# Altium integrated library Diodes - TVS.IntLib: 5379 symbols (part 92 of 122)
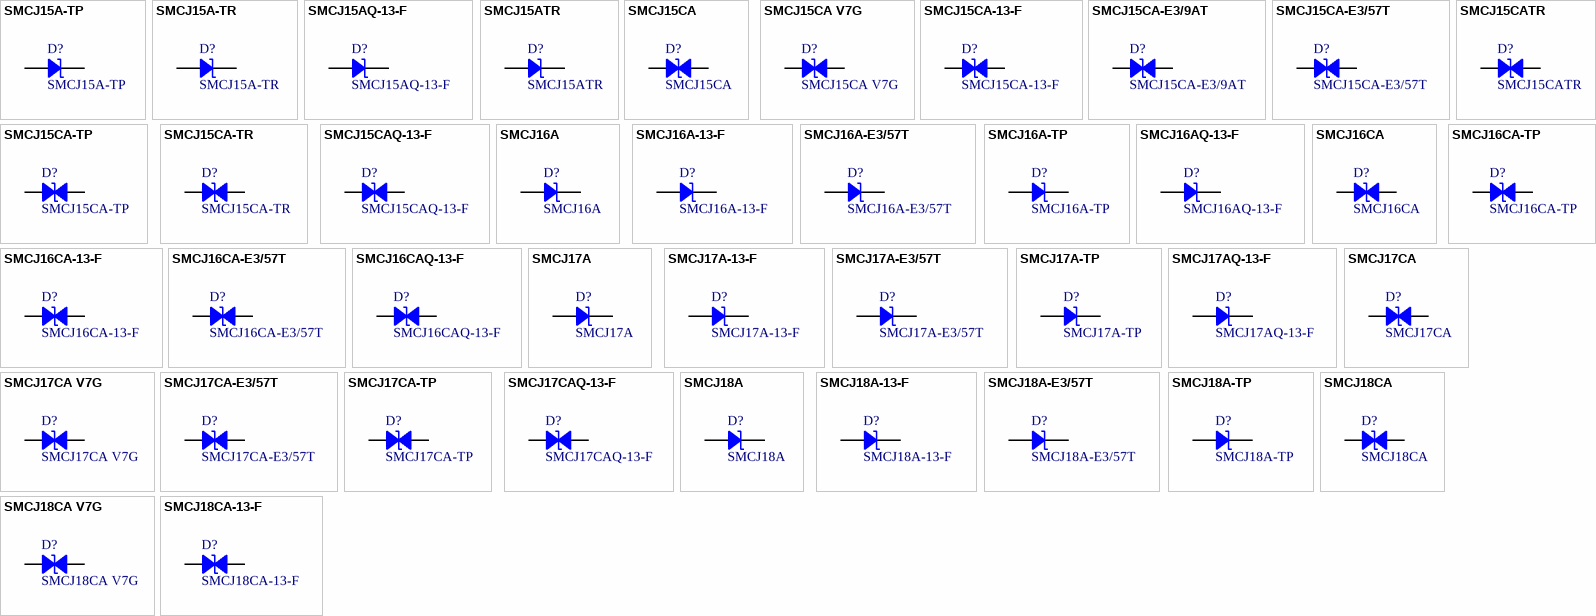
[diagram p225: symbols SMCJ15A-TP to SMCJ18CA-13-F]

## SMCJ17CAQ-13-F
designator D?
TRANSIENT VOLTAGE SUPPRESSOR,SMC; Manufacturer: Diodes Incorporated; Bidirectional Channels: 1; Current - Peak Pulse (10/1000µs): 53.3A; Power Line Protection: No; Power - Peak Pulse: 1500W (1.5kW); Type: Zener; Voltage - Breakdown (Min): 18.9V; Voltage - Clamping (Max) @ Ipp: 27.6V; Voltage - Reverse Standoff (Typ): 17V; Part Number: SMCJ17CAQ-13-F; Applications: Automotive; ComponentLink1Description: Datasheet; ComponentLink1URL: https://www.diodes.com/assets/Datasheets/ds40741.pdf; ComponentLink2Description: DigiKey Link; ComponentLink2URL: http://digikey.com/product-detail/en/diodes-incorporated/SMCJ17CAQ-13-F/SMCJ17CAQ-13-FDICT-ND/9738946; LastUpdated: 9/2/2020 1:28:09 AM; Lifecycle Status: Active; Minimum Order: 1; Mounting Type: Surface Mount; Operating Temperature: -55°C ~ 150°C (TJ); Package / Case: DO-214AB, SMC; Packaging: TapeAndReel; PartId: 8731; Part Status: Active; Price: 0.28; Series: Automotive, AEC-Q101; Supplier 1: DigiKey; Supplier Part Number 1: SMCJ17CAQ-13-FDICT-ND; Supplier Device Package: SMC
footprint DO214AB SMC
pins: 1, 2

## SMCJ18A
designator D?
TVS DIODE 18V 29.2V SMC; Manufacturer: Bourns Inc.; Current - Peak Pulse (10/1000µs): 51.4A; Power Line Protection: No; Power - Peak Pulse: 1500W (1.5kW); Type: Zener; Unidirectional Channels: 1; Voltage - Breakdown (Min): 20V; Part Number: SMCJ18A; Applications: General Purpose; ComponentLink1Description: Datasheet; ComponentLink1URL: https://www.bourns.com/docs/Product-Datasheets/SMCJ.pdf; ComponentLink2Description: DigiKey Link; ComponentLink2URL: http://digikey.com/product-detail/en/bourns-inc/SMCJ18A/SMCJ18ABCT-ND/2254276; LastUpdated: 9/2/2020 1:20:03 AM; Lifecycle Status: Active; Minimum Order: 1; Mounting Type: Surface Mount; Operating Temperature: -55°C ~ 150°C (TJ); Package / Case: DO-214AB, SMC; Packaging: TapeAndReel; PartId: 6693; Part Status: Active; Price: 0.20; Series: SMCJ; Supplier 1: DigiKey; Supplier Part Number 1: SMCJ18ABCT-ND; Supplier Device Package: SMC (DO-214AB); Voltage - Clamping (Max) @ Ipp: 29.2V; Voltage - Reverse Standoff (Typ): 18V
footprint DO214AB SMC
pins: 1, 2

## SMCJ18A-13-F
designator D?
TVS DIODE 18V 29.2V SMC; Manufacturer: Diodes Incorporated; Current - Peak Pulse (10/1000µs): 51.4A; Power Line Protection: No; Power - Peak Pulse: 1500W (1.5kW); Type: Zener; Unidirectional Channels: 1; Voltage - Breakdown (Min): 20V; Part Number: SMCJ18A-13-F; Applications: General Purpose; ComponentLink1Description: Datasheet; ComponentLink1URL: https://www.diodes.com/assets/Datasheets/ds19003.pdf; ComponentLink2Description: DigiKey Link; ComponentLink2URL: http://digikey.com/product-detail/en/diodes-incorporated/SMCJ18A-13-F/SMCJ18A-FDICT-ND/765475; LastUpdated: 9/2/2020 1:20:00 AM; Lifecycle Status: Active; Minimum Order: 1; Mounting Type: Surface Mount; Operating Temperature: -55°C ~ 150°C (TJ); Package / Case: DO-214AB, SMC; Packaging: TapeAndReel; PartId: 6366; Part Status: Active; Price: 0.27; Series: -; Supplier 1: DigiKey; Supplier Part Number 1: SMCJ18A-FDICT-ND; Supplier Device Package: SMC; Voltage - Clamping (Max) @ Ipp: 29.2V; Voltage - Reverse Standoff (Typ): 18V
footprint DO214AB SMC
pins: 1, 2

## SMCJ18A-E3/57T
designator D?
TVS DIODE 18V 29.2V DO214AB; Manufacturer: Vishay Semiconductor Diodes Division; Current - Peak Pulse (10/1000µs): 51.4A; Power Line Protection: No; Power - Peak Pulse: 1500W (1.5kW); Type: Zener; Unidirectional Channels: 1; Voltage - Breakdown (Min): 20V; Part Number: SMCJ18A-E3/57T; Applications: General Purpose; ComponentLink1Description: Datasheet; ComponentLink1URL: http://www.vishay.com/docs/88394/smcj.pdf; ComponentLink2Description: DigiKey Link; ComponentLink2URL: http://digikey.com/product-detail/en/vishay-semiconductor-diodes-division/SMCJ18A-E3-57T/SMCJ18A-E3-57TGICT-ND/2413462; LastUpdated: 9/2/2020 1:20:01 AM; Lifecycle Status: Active; Minimum Order: 1; Mounting Type: Surface Mount; Operating Temperature: -55°C ~ 150°C (TJ); Package / Case: DO-214AB, SMC; Packaging: TapeAndReel; PartId: 6490; Part Status: Active; Price: 0.25; Series: TransZorb®; Supplier 1: DigiKey; Supplier Part Number 1: SMCJ18A-E3/57TGICT-ND; Supplier Device Package: DO-214AB (SMCJ); Voltage - Clamping (Max) @ Ipp: 29.2V; Voltage - Reverse Standoff (Typ): 18V
footprint DO214AB SMC
pins: 1, 2

## SMCJ18A-TP
designator D?
TVS DIODE 18V 29.2V DO214AB; Manufacturer: Micro Commercial Co; Current - Peak Pulse (10/1000µs): 51.4A; Power Line Protection: No; Power - Peak Pulse: 1500W (1.5kW); Type: Zener; Unidirectional Channels: 1; Voltage - Breakdown (Min): 20V; Part Number: SMCJ18A-TP; Applications: General Purpose; ComponentLink1Description: Datasheet; ComponentLink1URL: https://www.mccsemi.com/pdf/Products/SMCJ5.0~SMCJ440CA(DO-214AB).pdf; ComponentLink2Description: DigiKey Link; ComponentLink2URL: http://digikey.com/product-detail/en/micro-commercial-co/SMCJ18A-TP/SMCJ18A-TPMSCT-ND/1200753; LastUpdated: 9/2/2020 1:20:07 AM; Lifecycle Status: Active; Minimum Order: 1; Mounting Type: Surface Mount; Operating Temperature: -55°C ~ 175°C (TJ); Package / Case: DO-214AB, SMC; Packaging: TapeAndReel; PartId: 7166; Part Status: Active; Price: 0.20; Series: -; Supplier 1: DigiKey; Supplier Part Number 1: SMCJ18A-TPMSCT-ND; Supplier Device Package: DO-214AB (SMC); Voltage - Clamping (Max) @ Ipp: 29.2V; Voltage - Reverse Standoff (Typ): 18V
footprint DO214AB SMC
pins: 1, 2

## SMCJ18CA
designator D?
TVS DIODE 18V 29.2V SMC; Manufacturer: Taiwan Semiconductor Corporation; Bidirectional Channels: 1; Current - Peak Pulse (10/1000µs): 51.4A; Power Line Protection: No; Power - Peak Pulse: 1500W (1.5kW); Type: Zener; Voltage - Breakdown (Min): 20V; Part Number: SMCJ18CA; Applications: General Purpose; ComponentLink1Description: Datasheet; ComponentLink1URL: https://www.taiwansemi.com/products/datasheet/SMCJ5V0CA_F%20SERIES_A1806.pdf; ComponentLink2Description: DigiKey Link; ComponentLink2URL: http://digikey.com/product-detail/en/taiwan-semiconductor-corporation/SMCJ18CA/SMCJ18CAFSCT-ND/2053169; LastUpdated: 9/2/2020 1:28:03 AM; Lifecycle Status: Active; Minimum Order: 1; Mounting Type: Surface Mount; Package / Case: DO-214AB, SMC; Packaging: TapeAndReel; PartId: 8116; Part Status: Active; Price: 0.30; Series: -; Supplier 1: DigiKey; Supplier Part Number 1: SMCJ18CAFSCT-ND; Supplier Device Package: SMC (DO-214AB); Voltage - Clamping (Max) @ Ipp: 29.2V; Voltage - Reverse Standoff (Typ): 18V
footprint DO214AB SMC
pins: 1, 2

## SMCJ18CA V7G
designator D?
TVS DIODE 18V 29.2V DO214AB; Manufacturer: Taiwan Semiconductor Corporation; Bidirectional Channels: 1; Current - Peak Pulse (10/1000µs): 53A; Power Line Protection: No; Power - Peak Pulse: 1500W (1.5kW); Type: Zener; Voltage - Breakdown (Min): 20V; Part Number: SMCJ18CA V7G; Applications: Telecom; ComponentLink1Description: Datasheet; ComponentLink1URL: https://www.taiwansemi.com/products/datasheet/SMCJ5V0CA_F%20SERIES_A1806.pdf; ComponentLink2Description: DigiKey Link; ComponentLink2URL: http://digikey.com/product-detail/en/taiwan-semiconductor-corporation/SMCJ18CA-V7G/SMCJ18CAV7GCT-ND/7944450; LastUpdated: 9/2/2020 1:28:06 AM; Lifecycle Status: Active; Minimum Order: 1; Mounting Type: Surface Mount; Operating Temperature: -55°C ~ 150°C (TJ); Package / Case: DO-214AB, SMC; Packaging: TapeAndReel; PartId: 8448; Part Status: Active; Price: 0.45; Series: SMCJ; Supplier 1: DigiKey; Supplier Part Number 1: SMCJ18CAV7GCT-ND; Supplier Device Package: DO-214AB (SMC); Voltage - Clamping (Max) @ Ipp: 29.2V; Voltage - Reverse Standoff (Typ): 18V
footprint DO214AB SMC
pins: 1, 2

## SMCJ18CA-13-F
designator D?
TVS DIODE 18V 29.2V SMC; Manufacturer: Diodes Incorporated; Bidirectional Channels: 1; Current - Peak Pulse (10/1000µs): 51.4A; Power Line Protection: No; Power - Peak Pulse: 1500W (1.5kW); Type: Zener; Voltage - Breakdown (Min): 20V; Part Number: SMCJ18CA-13-F; Applications: General Purpose; ComponentLink1Description: Datasheet; ComponentLink1URL: https://www.diodes.com/assets/Datasheets/ds19003.pdf; ComponentLink2Description: DigiKey Link; ComponentLink2URL: http://digikey.com/product-detail/en/diodes-incorporated/SMCJ18CA-13-F/SMCJ18CA-FDICT-ND/775797; LastUpdated: 9/2/2020 1:28:02 AM; Lifecycle Status: Active; Minimum Order: 1; Mounting Type: Surface Mount; Operating Temperature: -55°C ~ 150°C (TJ); Package / Case: DO-214AB, SMC; Packaging: TapeAndReel; PartId: 8037; Part Status: Active; Price: 0.27; Series: -; Supplier 1: DigiKey; Supplier Part Number 1: SMCJ18CA-FDICT-ND; Supplier Device Package: SMC; Voltage - Clamping (Max) @ Ipp: 29.2V; Voltage - Reverse Standoff (Typ): 18V
footprint DO214AB SMC
pins: 1, 2

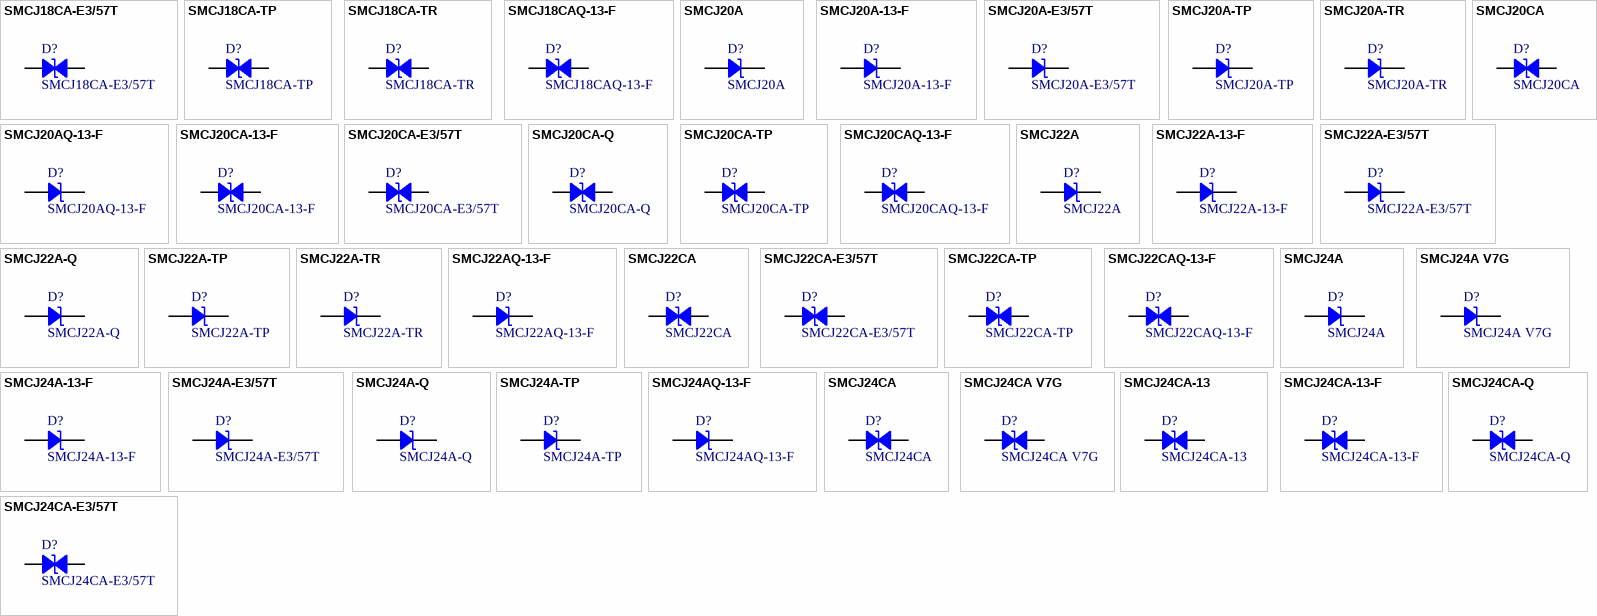
[diagram p101: symbols SMCJ18CA-E3/57T to SMCJ24CA-Q]

## SMCJ18CA-E3/57T
designator D?
TVS DIODE 18V 29.2V DO214AB; Manufacturer: Vishay Semiconductor Diodes Division; Bidirectional Channels: 1; Current - Peak Pulse (10/1000µs): 51.4A; Power Line Protection: No; Power - Peak Pulse: 1500W (1.5kW); Type: Zener; Voltage - Breakdown (Min): 20V; Part Number: SMCJ18CA-E3/57T; Applications: General Purpose; ComponentLink1Description: Datasheet; ComponentLink1URL: http://www.vishay.com/docs/88394/smcj.pdf; ComponentLink2Description: DigiKey Link; ComponentLink2URL: http://digikey.com/product-detail/en/vishay-semiconductor-diodes-division/SMCJ18CA-E3-57T/SMCJ18CA-E3-57TGICT-ND/2413409; LastUpdated: 9/2/2020 1:28:01 AM; Lifecycle Status: Active; Minimum Order: 1; Mounting Type: Surface Mount; Operating Temperature: -55°C ~ 150°C (TJ); Package / Case: DO-214AB, SMC; Packaging: TapeAndReel; PartId: 7921; Part Status: Active; Price: 0.30; Series: TransZorb®; Supplier 1: DigiKey; Supplier Part Number 1: SMCJ18CA-E3/57TGICT-ND; Supplier Device Package: DO-214AB (SMCJ); Voltage - Clamping (Max) @ Ipp: 29.2V; Voltage - Reverse Standoff (Typ): 18V
footprint DO214AB SMC
pins: 1, 2

## SMCJ18CA-TP
designator D?
TVS DIODE 18V 29.2V DO214AB; Manufacturer: Micro Commercial Co; Bidirectional Channels: 1; Current - Peak Pulse (10/1000µs): 51.4A; Power Line Protection: No; Power - Peak Pulse: 1500W (1.5kW); Type: Zener; Voltage - Breakdown (Min): 20V; Part Number: SMCJ18CA-TP; Applications: General Purpose; ComponentLink1Description: Datasheet; ComponentLink1URL: https://www.mccsemi.com/pdf/Products/SMCJ5.0~SMCJ440CA(DO-214AB).pdf; ComponentLink2Description: DigiKey Link; ComponentLink2URL: http://digikey.com/product-detail/en/micro-commercial-co/SMCJ18CA-TP/SMCJ18CA-TPMSCT-ND/1200754; LastUpdated: 9/2/2020 1:28:01 AM; Lifecycle Status: Active; Minimum Order: 1; Mounting Type: Surface Mount; Operating Temperature: -55°C ~ 175°C (TJ); Package / Case: DO-214AB, SMC; Packaging: TapeAndReel; PartId: 7949; Part Status: Active; Price: 0.21; Series: -; Supplier 1: DigiKey; Supplier Part Number 1: SMCJ18CA-TPMSCT-ND; Supplier Device Package: DO-214AB (SMC); Voltage - Clamping (Max) @ Ipp: 29.2V; Voltage - Reverse Standoff (Typ): 18V
footprint DO214AB SMC
pins: 1, 2

## SMCJ18CA-TR
designator D?
TVS DIODE 18V 39.3V SMC; Manufacturer: STMicroelectronics; Bidirectional Channels: 1; Current - Peak Pulse (10/1000µs): 254A (8/20µs); Power Line Protection: No; Power - Peak Pulse: 1500W (1.5kW); Type: Zener; Voltage - Breakdown (Min): 20V; Part Number: SMCJ18CA-TR; Applications: General Purpose; ComponentLink1Description: Datasheet; ComponentLink1URL: http://www.st.com/content/ccc/resource/technical/document/datasheet/ed/51/0b/1f/07/5e/42/1e/CD00001367.pdf/files/CD00001367.pdf/jcr:content/translations/en.CD00001367.pdf; ComponentLink2Description: DigiKey Link; ComponentLink2URL: http://digikey.com/product-detail/en/stmicroelectronics/SMCJ18CA-TR/497-SMCJ18CA-CT-ND/725571; LastUpdated: 9/2/2020 1:28:01 AM; Lifecycle Status: Active; Minimum Order: 1; Mounting Type: Surface Mount; Operating Temperature: -55°C ~ 150°C (TJ); Package / Case: DO-214AB, SMC; Packaging: TapeAndReel; PartId: 7866; Part Status: Active; Price: 0.19; Series: SMCJ, TRANSIL™; Supplier 1: DigiKey; Supplier Part Number 1: 497-SMCJ18CA-CT-ND; Supplier Device Package: SMC; Voltage - Clamping (Max) @ Ipp: 39.3V; Voltage - Reverse Standoff (Typ): 18V
footprint DO214AB SMC
pins: 1, 2

## SMCJ18CAQ-13-F
designator D?
TRANSIENT VOLTAGE SUPPRESSOR,SMC; Manufacturer: Diodes Incorporated; Bidirectional Channels: 1; Current - Peak Pulse (10/1000µs): 51.4A; Power Line Protection: No; Power - Peak Pulse: 1500W (1.5kW); Type: Zener; Voltage - Breakdown (Min): 20V; Voltage - Clamping (Max) @ Ipp: 29.2V; Voltage - Reverse Standoff (Typ): 18V; Part Number: SMCJ18CAQ-13-F; Applications: Automotive; ComponentLink1Description: Datasheet; ComponentLink1URL: https://www.diodes.com/assets/Datasheets/ds40741.pdf; ComponentLink2Description: DigiKey Link; ComponentLink2URL: http://digikey.com/product-detail/en/diodes-incorporated/SMCJ18CAQ-13-F/SMCJ18CAQ-13-FDICT-ND/9738947; LastUpdated: 9/2/2020 1:28:09 AM; Lifecycle Status: Active; Minimum Order: 1; Mounting Type: Surface Mount; Operating Temperature: -55°C ~ 150°C (TJ); Package / Case: DO-214AB, SMC; Packaging: TapeAndReel; PartId: 8732; Part Status: Active; Price: 0.28; Series: Automotive, AEC-Q101; Supplier 1: DigiKey; Supplier Part Number 1: SMCJ18CAQ-13-FDICT-ND; Supplier Device Package: SMC
footprint DO214AB SMC
pins: 1, 2

## SMCJ20A
designator D?
TVS DIODE 20V 32.4V SMC; Manufacturer: Taiwan Semiconductor Corporation; Current - Peak Pulse (10/1000µs): 46.3A; Power Line Protection: No; Power - Peak Pulse: 1500W (1.5kW); Type: Zener; Unidirectional Channels: 1; Voltage - Breakdown (Min): 22.2V; Part Number: SMCJ20A; Applications: General Purpose; ComponentLink1Description: Datasheet; ComponentLink1URL: https://www.taiwansemi.com/products/datasheet/SMCJ%20SERIES_Q1812.pdf; ComponentLink2Description: DigiKey Link; ComponentLink2URL: http://digikey.com/product-detail/en/taiwan-semiconductor-corporation/SMCJ20A/SMCJ20AFSCT-ND/3478372; LastUpdated: 9/2/2020 1:20:02 AM; Lifecycle Status: Active; Minimum Order: 1; Mounting Type: Surface Mount; Package / Case: DO-214AB, SMC; Packaging: TapeAndReel; PartId: 6622; Part Status: Active; Price: 0.26; Series: -; Supplier 1: DigiKey; Supplier Part Number 1: SMCJ20AFSCT-ND; Supplier Device Package: SMC (DO-214AB); Voltage - Clamping (Max) @ Ipp: 32.4V; Voltage - Reverse Standoff (Typ): 20V
footprint DO214AB SMC
pins: 1, 2

## SMCJ20A-13-F
designator D?
TVS DIODE 20V 32.4V SMC; Manufacturer: Diodes Incorporated; Current - Peak Pulse (10/1000µs): 46.3A; Power Line Protection: No; Power - Peak Pulse: 1500W (1.5kW); Type: Zener; Unidirectional Channels: 1; Voltage - Breakdown (Min): 22.2V; Part Number: SMCJ20A-13-F; Applications: General Purpose; ComponentLink1Description: Datasheet; ComponentLink1URL: https://www.diodes.com/assets/Datasheets/ds19003.pdf; ComponentLink2Description: DigiKey Link; ComponentLink2URL: http://digikey.com/product-detail/en/diodes-incorporated/SMCJ20A-13-F/SMCJ20A-FDICT-ND/725081; LastUpdated: 9/2/2020 1:20:03 AM; Lifecycle Status: Active; Minimum Order: 1; Mounting Type: Surface Mount; Operating Temperature: -55°C ~ 150°C (TJ); Package / Case: DO-214AB, SMC; Packaging: TapeAndReel; PartId: 6677; Part Status: Active; Price: 0.26; Series: -; Supplier 1: DigiKey; Supplier Part Number 1: SMCJ20A-FDICT-ND; Supplier Device Package: SMC; Voltage - Clamping (Max) @ Ipp: 32.4V; Voltage - Reverse Standoff (Typ): 20V
footprint DO214AB SMC
pins: 1, 2

## SMCJ20A-E3/57T
designator D?
TVS DIODE 20V 32.4V DO214AB; Manufacturer: Vishay Semiconductor Diodes Division; Current - Peak Pulse (10/1000µs): 46.3A; Power Line Protection: No; Power - Peak Pulse: 1500W (1.5kW); Type: Zener; Unidirectional Channels: 1; Voltage - Breakdown (Min): 22.2V; Part Number: SMCJ20A-E3/57T; Applications: General Purpose; ComponentLink1Description: Datasheet; ComponentLink1URL: http://www.vishay.com/docs/88394/smcj.pdf; ComponentLink2Description: DigiKey Link; ComponentLink2URL: http://digikey.com/product-detail/en/vishay-semiconductor-diodes-division/SMCJ20A-E3-57T/SMCJ20A-E3-57TGICT-ND/2413410; LastUpdated: 9/2/2020 1:20:02 AM; Lifecycle Status: Active; Minimum Order: 1; Mounting Type: Surface Mount; Operating Temperature: -55°C ~ 150°C (TJ); Package / Case: DO-214AB, SMC; Packaging: TapeAndReel; PartId: 6560; Part Status: Active; Price: 0.25; Series: TransZorb®; Supplier 1: DigiKey; Supplier Part Number 1: SMCJ20A-E3/57TGICT-ND; Supplier Device Package: DO-214AB (SMCJ); Voltage - Clamping (Max) @ Ipp: 32.4V; Voltage - Reverse Standoff (Typ): 20V
footprint DO214AB SMC
pins: 1, 2

## SMCJ20A-TP
designator D?
TVS DIODE 20V 32.4V DO214AB; Manufacturer: Micro Commercial Co; Current - Peak Pulse (10/1000µs): 46.3A; Power Line Protection: No; Power - Peak Pulse: 1500W (1.5kW); Type: Zener; Unidirectional Channels: 1; Voltage - Breakdown (Min): 22.2V; Part Number: SMCJ20A-TP; Applications: General Purpose; ComponentLink1Description: Datasheet; ComponentLink1URL: https://www.mccsemi.com/pdf/Products/SMCJ5.0~SMCJ440CA(DO-214AB).pdf; ComponentLink2Description: DigiKey Link; ComponentLink2URL: http://digikey.com/product-detail/en/micro-commercial-co/SMCJ20A-TP/SMCJ20A-TPMSCT-ND/1200755; LastUpdated: 9/2/2020 1:20:02 AM; Lifecycle Status: Active; Minimum Order: 1; Mounting Type: Surface Mount; Operating Temperature: -55°C ~ 175°C (TJ); Package / Case: DO-214AB, SMC; Packaging: TapeAndReel; PartId: 6553; Part Status: Active; Price: 0.21; Series: -; Supplier 1: DigiKey; Supplier Part Number 1: SMCJ20A-TPMSCT-ND; Supplier Device Package: DO-214AB (SMC); Voltage - Clamping (Max) @ Ipp: 32.4V; Voltage - Reverse Standoff (Typ): 20V
footprint DO214AB SMC
pins: 1, 2

## SMCJ20A-TR
designator D?
TVS DIODE 20V 42.8V SMC; Manufacturer: STMicroelectronics; Current - Peak Pulse (10/1000µs): 234A (8/20µs); Power Line Protection: No; Power - Peak Pulse: 1500W (1.5kW); Type: Zener; Unidirectional Channels: 1; Voltage - Breakdown (Min): 22.2V; Part Number: SMCJ20A-TR; Applications: General Purpose; ComponentLink1Description: Datasheet; ComponentLink1URL: http://www.st.com/content/ccc/resource/technical/document/datasheet/ed/51/0b/1f/07/5e/42/1e/CD00001367.pdf/files/CD00001367.pdf/jcr:content/translations/en.CD00001367.pdf; ComponentLink2Description: DigiKey Link; ComponentLink2URL: http://digikey.com/product-detail/en/stmicroelectronics/SMCJ20A-TR/497-19298-1-ND/10063323; LastUpdated: 9/2/2020 1:20:01 AM; Lifecycle Status: Active; Minimum Order: 1; Mounting Type: Surface Mount; Operating Temperature: -55°C ~ 150°C (TJ); Package / Case: DO-214AB, SMC; Packaging: TapeAndReel; PartId: 6477; Part Status: Active; Price: 0.15; Series: SMCJ, TRANSIL™; Supplier 1: DigiKey; Supplier Part Number 1: 497-19298-1-ND; Supplier Device Package: SMC; Voltage - Clamping (Max) @ Ipp: 42.8V; Voltage - Reverse Standoff (Typ): 20V
footprint DO214AB SMC
pins: 1, 2

## SMCJ20AQ-13-F
designator D?
TRANSIENT VOLTAGE SUPPRESSOR,SMC; Manufacturer: Diodes Incorporated; Current - Peak Pulse (10/1000µs): 46.3A; Power Line Protection: No; Power - Peak Pulse: 1500W (1.5kW); Type: Zener; Unidirectional Channels: 1; Voltage - Breakdown (Min): 22.2V; Voltage - Clamping (Max) @ Ipp: 32.4V; Voltage - Reverse Standoff (Typ): 20V; Part Number: SMCJ20AQ-13-F; Applications: Automotive; ComponentLink1Description: Datasheet; ComponentLink1URL: https://www.diodes.com/assets/Datasheets/ds40741.pdf; ComponentLink2Description: DigiKey Link; ComponentLink2URL: http://digikey.com/product-detail/en/diodes-incorporated/SMCJ20AQ-13-F/SMCJ20AQ-13-FDICT-ND/9738937; LastUpdated: 9/2/2020 1:20:00 AM; Lifecycle Status: Active; Minimum Order: 1; Mounting Type: Surface Mount; Operating Temperature: -55°C ~ 150°C (TJ); Package / Case: DO-214AB, SMC; Packaging: TapeAndReel; PartId: 6391; Part Status: Active; Price: 0.26; Series: Automotive, AEC-Q101; Supplier 1: DigiKey; Supplier Part Number 1: SMCJ20AQ-13-FDICT-ND; Supplier Device Package: SMC
footprint DO214AB SMC
pins: 1, 2

## SMCJ20CA
designator D?
TVS DIODE 20V 32.4V SMC; Manufacturer: Taiwan Semiconductor Corporation; Bidirectional Channels: 1; Current - Peak Pulse (10/1000µs): 46.3A; Power Line Protection: No; Power - Peak Pulse: 1500W (1.5kW); Type: Zener; Voltage - Breakdown (Min): 22.2V; Part Number: SMCJ20CA; Applications: General Purpose; ComponentLink1Description: Datasheet; ComponentLink1URL: https://www.taiwansemi.com/products/datasheet/SMCJ5V0CA_F%20SERIES_A1806.pdf; ComponentLink2Description: DigiKey Link; ComponentLink2URL: http://digikey.com/product-detail/en/taiwan-semiconductor-corporation/SMCJ20CA/SMCJ20CAFSCT-ND/3478365; LastUpdated: 9/2/2020 1:28:04 AM; Lifecycle Status: Active; Minimum Order: 1; Mounting Type: Surface Mount; Package / Case: DO-214AB, SMC; Packaging: TapeAndReel; PartId: 8232; Part Status: Active; Price: 0.23; Series: -; Supplier 1: DigiKey; Supplier Part Number 1: SMCJ20CAFSCT-ND; Supplier Device Package: SMC (DO-214AB); Voltage - Clamping (Max) @ Ipp: 32.4V; Voltage - Reverse Standoff (Typ): 20V
footprint DO214AB SMC
pins: 1, 2

## SMCJ20CA-13-F
designator D?
TVS DIODE 20V 32.4V SMC; Manufacturer: Diodes Incorporated; Bidirectional Channels: 1; Current - Peak Pulse (10/1000µs): 46.3A; Power Line Protection: No; Power - Peak Pulse: 1500W (1.5kW); Type: Zener; Voltage - Breakdown (Min): 22.2V; Part Number: SMCJ20CA-13-F; Applications: General Purpose; ComponentLink1Description: Datasheet; ComponentLink1URL: https://www.diodes.com/assets/Datasheets/ds19003.pdf; ComponentLink2Description: DigiKey Link; ComponentLink2URL: http://digikey.com/product-detail/en/diodes-incorporated/SMCJ20CA-13-F/SMCJ20CA-FDICT-ND/816119; LastUpdated: 9/2/2020 1:28:08 AM; Lifecycle Status: Active; Minimum Order: 1; Mounting Type: Surface Mount; Operating Temperature: -55°C ~ 150°C (TJ); Package / Case: DO-214AB, SMC; Packaging: TapeAndReel; PartId: 8713; Part Status: Active; Price: 0.30; Series: -; Supplier 1: DigiKey; Supplier Part Number 1: SMCJ20CA-FDICT-ND; Supplier Device Package: SMC; Voltage - Clamping (Max) @ Ipp: 32.4V; Voltage - Reverse Standoff (Typ): 20V
footprint DO214AB SMC
pins: 1, 2

## SMCJ20CA-E3/57T
designator D?
TVS DIODE 20V 32.4V DO214AB; Manufacturer: Vishay Semiconductor Diodes Division; Bidirectional Channels: 1; Current - Peak Pulse (10/1000µs): 46.3A; Power Line Protection: No; Power - Peak Pulse: 1500W (1.5kW); Type: Zener; Voltage - Breakdown (Min): 22.2V; Part Number: SMCJ20CA-E3/57T; Applications: General Purpose; ComponentLink1Description: Datasheet; ComponentLink1URL: http://www.vishay.com/docs/88394/smcj.pdf; ComponentLink2Description: DigiKey Link; ComponentLink2URL: http://digikey.com/product-detail/en/vishay-semiconductor-diodes-division/SMCJ20CA-E3-57T/SMCJ20CA-E3-57TGICT-ND/2413452; LastUpdated: 9/2/2020 1:28:01 AM; Lifecycle Status: Active; Minimum Order: 1; Mounting Type: Surface Mount; Operating Temperature: -55°C ~ 150°C (TJ); Package / Case: DO-214AB, SMC; Packaging: TapeAndReel; PartId: 7920; Part Status: Active; Price: 0.30; Series: TransZorb®; Supplier 1: DigiKey; Supplier Part Number 1: SMCJ20CA-E3/57TGICT-ND; Supplier Device Package: DO-214AB (SMCJ); Voltage - Clamping (Max) @ Ipp: 32.4V; Voltage - Reverse Standoff (Typ): 20V
footprint DO214AB SMC
pins: 1, 2

## SMCJ20CA-Q
designator D?
TVS DIODE 20V 32.4V SMC; Manufacturer: Bourns Inc.; Bidirectional Channels: 1; Current - Peak Pulse (10/1000µs): 46.3A; Power Line Protection: No; Power - Peak Pulse: 1500W (1.5kW); Type: Zener; Voltage - Breakdown (Min): 22.2V; Part Number: SMCJ20CA-Q; Applications: Automotive; ComponentLink1Description: Datasheet; ComponentLink1URL: https://www.bourns.com/docs/Product-Datasheets/SMCJ-Q.pdf; ComponentLink2Description: DigiKey Link; ComponentLink2URL: http://digikey.com/product-detail/en/bourns-inc/SMCJ20CA-Q/SMCJ20CA-QCT-ND/10222731; LastUpdated: 9/2/2020 1:28:09 AM; Lifecycle Status: Active; Minimum Order: 1; Mounting Type: Surface Mount; Operating Temperature: -55°C ~ 150°C (TJ); Package / Case: DO-214AB, SMC; Packaging: TapeAndReel; PartId: 8724; Part Status: Active; Price: 0.29; Series: Automotive, AEC-Q101, SMCJ; Supplier 1: DigiKey; Supplier Part Number 1: SMCJ20CA-QCT-ND; Supplier Device Package: SMC (DO-214AB); Voltage - Clamping (Max) @ Ipp: 32.4V; Voltage - Reverse Standoff (Typ): 20V
footprint DO214AB SMC
pins: 1, 2

## SMCJ20CA-TP
designator D?
TVS DIODE 20V 32.4V DO214AB; Manufacturer: Micro Commercial Co; Bidirectional Channels: 1; Current - Peak Pulse (10/1000µs): 46.3A; Power Line Protection: No; Power - Peak Pulse: 1500W (1.5kW); Type: Zener; Voltage - Breakdown (Min): 22.2V; Part Number: SMCJ20CA-TP; Applications: General Purpose; ComponentLink1Description: Datasheet; ComponentLink1URL: https://www.mccsemi.com/pdf/Products/SMCJ5.0~SMCJ440CA(DO-214AB).pdf; ComponentLink2Description: DigiKey Link; ComponentLink2URL: http://digikey.com/product-detail/en/micro-commercial-co/SMCJ20CA-TP/SMCJ20CA-TPMSCT-ND/1200756; LastUpdated: 9/2/2020 1:28:02 AM; Lifecycle Status: Active; Minimum Order: 1; Mounting Type: Surface Mount; Operating Temperature: -55°C ~ 175°C (TJ); Package / Case: DO-214AB, SMC; Packaging: TapeAndReel; PartId: 7975; Part Status: Active; Price: 0.21; Series: -; Supplier 1: DigiKey; Supplier Part Number 1: SMCJ20CA-TPMSCT-ND; Supplier Device Package: DO-214AB (SMC); Voltage - Clamping (Max) @ Ipp: 32.4V; Voltage - Reverse Standoff (Typ): 20V
footprint DO214AB SMC
pins: 1, 2

## SMCJ20CAQ-13-F
designator D?
TRANSIENT VOLTAGE SUPPRESSOR,SMC; Manufacturer: Diodes Incorporated; Bidirectional Channels: 1; Current - Peak Pulse (10/1000µs): 46.3A; Power Line Protection: No; Power - Peak Pulse: 1500W (1.5kW); Type: Zener; Voltage - Breakdown (Min): 22.2V; Voltage - Clamping (Max) @ Ipp: 32.4V; Voltage - Reverse Standoff (Typ): 20V; Part Number: SMCJ20CAQ-13-F; Applications: Automotive; ComponentLink1Description: Datasheet; ComponentLink1URL: https://www.diodes.com/assets/Datasheets/ds40741.pdf; ComponentLink2Description: DigiKey Link; ComponentLink2URL: http://digikey.com/product-detail/en/diodes-incorporated/SMCJ20CAQ-13-F/SMCJ20CAQ-13-FDICT-ND/9738948; LastUpdated: 9/2/2020 1:28:09 AM; Lifecycle Status: Active; Minimum Order: 1; Mounting Type: Surface Mount; Operating Temperature: -55°C ~ 150°C (TJ); Package / Case: DO-214AB, SMC; Packaging: TapeAndReel; PartId: 8729; Part Status: Active; Price: 0.28; Series: Automotive, AEC-Q101; Supplier 1: DigiKey; Supplier Part Number 1: SMCJ20CAQ-13-FDICT-ND; Supplier Device Package: SMC
footprint DO214AB SMC
pins: 1, 2

## SMCJ22A
designator D?
TVS DIODE 22V 35.5V SMC; Manufacturer: Bourns Inc.; Current - Peak Pulse (10/1000µs): 42.3A; Power Line Protection: No; Power - Peak Pulse: 1500W (1.5kW); Type: Zener; Unidirectional Channels: 1; Voltage - Breakdown (Min): 24.4V; Part Number: SMCJ22A; Applications: General Purpose; ComponentLink1Description: Datasheet; ComponentLink1URL: https://www.bourns.com/docs/Product-Datasheets/SMCJ.pdf; ComponentLink2Description: DigiKey Link; ComponentLink2URL: http://digikey.com/product-detail/en/bourns-inc/SMCJ22A/SMCJ22ABCT-ND/2254282; LastUpdated: 9/2/2020 1:20:00 AM; Lifecycle Status: Active; Minimum Order: 1; Mounting Type: Surface Mount; Operating Temperature: -55°C ~ 150°C (TJ); Package / Case: DO-214AB, SMC; Packaging: TapeAndReel; PartId: 6419; Part Status: Active; Price: 0.20; Series: SMCJ; Supplier 1: DigiKey; Supplier Part Number 1: SMCJ22ABCT-ND; Supplier Device Package: SMC (DO-214AB); Voltage - Clamping (Max) @ Ipp: 35.5V; Voltage - Reverse Standoff (Typ): 22V
footprint DO214AB SMC
pins: 1, 2

## SMCJ22A-13-F
designator D?
TVS DIODE 22V 35.5V SMC; Manufacturer: Diodes Incorporated; Current - Peak Pulse (10/1000µs): 42.2A; Power Line Protection: No; Power - Peak Pulse: 1500W (1.5kW); Type: Zener; Unidirectional Channels: 1; Voltage - Breakdown (Min): 24.4V; Part Number: SMCJ22A-13-F; Applications: General Purpose; ComponentLink1Description: Datasheet; ComponentLink1URL: https://www.diodes.com/assets/Datasheets/ds19003.pdf; ComponentLink2Description: DigiKey Link; ComponentLink2URL: http://digikey.com/product-detail/en/diodes-incorporated/SMCJ22A-13-F/SMCJ22A-FDICT-ND/816120; LastUpdated: 9/2/2020 1:20:00 AM; Lifecycle Status: Active; Minimum Order: 1; Mounting Type: Surface Mount; Operating Temperature: -55°C ~ 150°C (TJ); Package / Case: DO-214AB, SMC; Packaging: TapeAndReel; PartId: 6365; Part Status: Active; Price: 0.28; Series: -; Supplier 1: DigiKey; Supplier Part Number 1: SMCJ22A-FDICT-ND; Supplier Device Package: SMC; Voltage - Clamping (Max) @ Ipp: 35.5V; Voltage - Reverse Standoff (Typ): 22V
footprint DO214AB SMC
pins: 1, 2

## SMCJ22A-E3/57T
designator D?
TVS DIODE 22V 35.5V DO214AB; Manufacturer: Vishay Semiconductor Diodes Division; Current - Peak Pulse (10/1000µs): 42.3A; Power Line Protection: No; Power - Peak Pulse: 1500W (1.5kW); Type: Zener; Unidirectional Channels: 1; Voltage - Breakdown (Min): 24.4V; Part Number: SMCJ22A-E3/57T; Applications: General Purpose; ComponentLink1Description: Datasheet; ComponentLink1URL: http://www.vishay.com/docs/88394/smcj.pdf; ComponentLink2Description: DigiKey Link; ComponentLink2URL: http://digikey.com/product-detail/en/vishay-semiconductor-diodes-division/SMCJ22A-E3-57T/SMCJ22A-E3-57TGICT-ND/2413453; LastUpdated: 9/2/2020 1:20:02 AM; Lifecycle Status: Active; Minimum Order: 1; Mounting Type: Surface Mount; Operating Temperature: -55°C ~ 150°C (TJ); Package / Case: DO-214AB, SMC; Packaging: TapeAndReel; PartId: 6583; Part Status: Active; Price: 0.25; Series: TransZorb®; Supplier 1: DigiKey; Supplier Part Number 1: SMCJ22A-E3/57TGICT-ND; Supplier Device Package: DO-214AB (SMCJ); Voltage - Clamping (Max) @ Ipp: 35.5V; Voltage - Reverse Standoff (Typ): 22V
footprint DO214AB SMC
pins: 1, 2

## SMCJ22A-Q
designator D?
TVS DIODE 22V 35.5V SMC; Manufacturer: Bourns Inc.; Current - Peak Pulse (10/1000µs): 42.3A; Power Line Protection: No; Power - Peak Pulse: 1500W (1.5kW); Type: Zener; Unidirectional Channels: 1; Voltage - Breakdown (Min): 24.4V; Part Number: SMCJ22A-Q; Applications: Automotive; ComponentLink1Description: Datasheet; ComponentLink1URL: https://www.bourns.com/docs/Product-Datasheets/SMCJ-Q.pdf; ComponentLink2Description: DigiKey Link; ComponentLink2URL: http://digikey.com/product-detail/en/bourns-inc/SMCJ22A-Q/SMCJ22A-QCT-ND/10222732; LastUpdated: 9/2/2020 1:20:00 AM; Lifecycle Status: Active; Minimum Order: 1; Mounting Type: Surface Mount; Operating Temperature: -55°C ~ 150°C (TJ); Package / Case: DO-214AB, SMC; Packaging: TapeAndReel; PartId: 6371; Part Status: Active; Price: 0.27; Series: Automotive, AEC-Q101, SMCJ; Supplier 1: DigiKey; Supplier Part Number 1: SMCJ22A-QCT-ND; Supplier Device Package: SMC (DO-214AB); Voltage - Clamping (Max) @ Ipp: 35.5V; Voltage - Reverse Standoff (Typ): 22V
footprint DO214AB SMC
pins: 1, 2

## SMCJ22A-TP
designator D?
TVS DIODE 22V 35.5V DO214AB; Manufacturer: Micro Commercial Co; Current - Peak Pulse (10/1000µs): 42.3A; Power Line Protection: No; Power - Peak Pulse: 1500W (1.5kW); Type: Zener; Unidirectional Channels: 1; Voltage - Breakdown (Min): 24.4V; Part Number: SMCJ22A-TP; Applications: General Purpose; ComponentLink1Description: Datasheet; ComponentLink1URL: https://www.mccsemi.com/pdf/Products/SMCJ5.0~SMCJ440CA(DO-214AB).pdf; ComponentLink2Description: DigiKey Link; ComponentLink2URL: http://digikey.com/product-detail/en/micro-commercial-co/SMCJ22A-TP/SMCJ22A-TPMSCT-ND/1200757; LastUpdated: 9/2/2020 1:19:59 AM; Lifecycle Status: Active; Minimum Order: 1; Mounting Type: Surface Mount; Operating Temperature: -55°C ~ 175°C (TJ); Package / Case: DO-214AB, SMC; Packaging: TapeAndReel; PartId: 6334; Part Status: Active; Price: 0.20; Series: -; Supplier 1: DigiKey; Supplier Part Number 1: SMCJ22A-TPMSCT-ND; Supplier Device Package: DO-214AB (SMC); Voltage - Clamping (Max) @ Ipp: 35.5V; Voltage - Reverse Standoff (Typ): 22V
footprint DO214AB SMC
pins: 1, 2

## SMCJ22A-TR
designator D?
TVS DIODE 22V 48.3V SMC; Manufacturer: STMicroelectronics; Current - Peak Pulse (10/1000µs): 207A (8/20µs); Power Line Protection: No; Power - Peak Pulse: 1500W (1.5kW); Type: Zener; Unidirectional Channels: 1; Voltage - Breakdown (Min): 24.4V; Part Number: SMCJ22A-TR; Applications: General Purpose; ComponentLink1Description: Datasheet; ComponentLink1URL: http://www.st.com/content/ccc/resource/technical/document/datasheet/ed/51/0b/1f/07/5e/42/1e/CD00001367.pdf/files/CD00001367.pdf/jcr:content/translations/en.CD00001367.pdf; ComponentLink2Description: DigiKey Link; ComponentLink2URL: http://digikey.com/product-detail/en/stmicroelectronics/SMCJ22A-TR/497-18723-1-ND/9958384; LastUpdated: 9/2/2020 1:20:01 AM; Lifecycle Status: Active; Minimum Order: 1; Mounting Type: Surface Mount; Operating Temperature: -55°C ~ 150°C (TJ); Package / Case: DO-214AB, SMC; Packaging: TapeAndReel; PartId: 6475; Part Status: Active; Price: 0.18; Series: SMCJ, TRANSIL™; Supplier 1: DigiKey; Supplier Part Number 1: 497-18723-1-ND; Supplier Device Package: SMC; Voltage - Clamping (Max) @ Ipp: 48.3V; Voltage - Reverse Standoff (Typ): 22V
footprint DO214AB SMC
pins: 1, 2

## SMCJ22AQ-13-F
designator D?
TRANSIENT VOLTAGE SUPPRESSOR,SMC; Manufacturer: Diodes Incorporated; Current - Peak Pulse (10/1000µs): 42.2A; Power Line Protection: No; Power - Peak Pulse: 1500W (1.5kW); Type: Zener; Unidirectional Channels: 1; Voltage - Breakdown (Min): 24.4V; Voltage - Clamping (Max) @ Ipp: 35.5V; Voltage - Reverse Standoff (Typ): 22V; Part Number: SMCJ22AQ-13-F; Applications: Automotive; ComponentLink1Description: Datasheet; ComponentLink1URL: https://www.diodes.com/assets/Datasheets/ds40741.pdf; ComponentLink2Description: DigiKey Link; ComponentLink2URL: http://digikey.com/product-detail/en/diodes-incorporated/SMCJ22AQ-13-F/SMCJ22AQ-13-FDICT-ND/9738938; LastUpdated: 9/2/2020 1:20:00 AM; Lifecycle Status: Active; Minimum Order: 1; Mounting Type: Surface Mount; Operating Temperature: -55°C ~ 150°C (TJ); Package / Case: DO-214AB, SMC; Packaging: TapeAndReel; PartId: 6389; Part Status: Active; Price: 0.26; Series: Automotive, AEC-Q101; Supplier 1: DigiKey; Supplier Part Number 1: SMCJ22AQ-13-FDICT-ND; Supplier Device Package: SMC
footprint DO214AB SMC
pins: 1, 2

## SMCJ22CA
designator D?
TVS DIODE 22V 35.5V SMC; Manufacturer: Bourns Inc.; Bidirectional Channels: 1; Current - Peak Pulse (10/1000µs): 42.3A; Power Line Protection: No; Power - Peak Pulse: 1500W (1.5kW); Type: Zener; Voltage - Breakdown (Min): 24.4V; Part Number: SMCJ22CA; Applications: General Purpose; ComponentLink1Description: Datasheet; ComponentLink1URL: https://www.bourns.com/docs/Product-Datasheets/SMCJ.pdf; ComponentLink2Description: DigiKey Link; ComponentLink2URL: http://digikey.com/product-detail/en/bourns-inc/SMCJ22CA/SMCJ22CABCT-ND/2253602; LastUpdated: 9/2/2020 1:28:03 AM; Lifecycle Status: Active; Minimum Order: 1; Mounting Type: Surface Mount; Operating Temperature: -55°C ~ 150°C (TJ); Package / Case: DO-214AB, SMC; Packaging: TapeAndReel; PartId: 8134; Part Status: Active; Price: 0.22; Series: SMCJ; Supplier 1: DigiKey; Supplier Part Number 1: SMCJ22CABCT-ND; Supplier Device Package: SMC (DO-214AB); Voltage - Clamping (Max) @ Ipp: 35.5V; Voltage - Reverse Standoff (Typ): 22V
footprint DO214AB SMC
pins: 1, 2

## SMCJ22CA-E3/57T
designator D?
TVS DIODE 22V 35.5V DO214AB; Manufacturer: Vishay Semiconductor Diodes Division; Bidirectional Channels: 1; Current - Peak Pulse (10/1000µs): 42.3A; Power Line Protection: No; Power - Peak Pulse: 1500W (1.5kW); Type: Zener; Voltage - Breakdown (Min): 24.4V; Part Number: SMCJ22CA-E3/57T; Applications: General Purpose; ComponentLink1Description: Datasheet; ComponentLink1URL: http://www.vishay.com/docs/88394/smcj.pdf; ComponentLink2Description: DigiKey Link; ComponentLink2URL: http://digikey.com/product-detail/en/vishay-semiconductor-diodes-division/SMCJ22CA-E3-57T/SMCJ22CA-E3-57TGICT-ND/3306589; LastUpdated: 9/2/2020 1:28:05 AM; Lifecycle Status: Active; Minimum Order: 1; Mounting Type: Surface Mount; Operating Temperature: -55°C ~ 150°C (TJ); Package / Case: DO-214AB, SMC; Packaging: TapeAndReel; PartId: 8312; Part Status: Active; Price: 0.30; Series: TransZorb®; Supplier 1: DigiKey; Supplier Part Number 1: SMCJ22CA-E3/57TGICT-ND; Supplier Device Package: DO-214AB (SMCJ); Voltage - Clamping (Max) @ Ipp: 35.5V; Voltage - Reverse Standoff (Typ): 22V
footprint DO214AB SMC
pins: 1, 2

## SMCJ22CA-TP
designator D?
TVS DIODE 22V 35.5V DO214AB; Manufacturer: Micro Commercial Co; Bidirectional Channels: 1; Current - Peak Pulse (10/1000µs): 42.3A; Power Line Protection: No; Power - Peak Pulse: 1500W (1.5kW); Type: Zener; Voltage - Breakdown (Min): 24.4V; Part Number: SMCJ22CA-TP; Applications: General Purpose; ComponentLink1Description: Datasheet; ComponentLink1URL: https://www.mccsemi.com/pdf/Products/SMCJ5.0~SMCJ440CA(DO-214AB).pdf; ComponentLink2Description: DigiKey Link; ComponentLink2URL: http://digikey.com/product-detail/en/micro-commercial-co/SMCJ22CA-TP/SMCJ22CA-TPMSCT-ND/1200758; LastUpdated: 9/2/2020 1:28:02 AM; Lifecycle Status: Active; Minimum Order: 1; Mounting Type: Surface Mount; Operating Temperature: -55°C ~ 175°C (TJ); Package / Case: DO-214AB, SMC; Packaging: TapeAndReel; PartId: 7974; Part Status: Active; Price: 0.21; Series: -; Supplier 1: DigiKey; Supplier Part Number 1: SMCJ22CA-TPMSCT-ND; Supplier Device Package: DO-214AB (SMC); Voltage - Clamping (Max) @ Ipp: 35.5V; Voltage - Reverse Standoff (Typ): 22V
footprint DO214AB SMC
pins: 1, 2

## SMCJ22CAQ-13-F
designator D?
TRANSIENT VOLTAGE SUPPRESSOR,SMC; Manufacturer: Diodes Incorporated; Bidirectional Channels: 1; Current - Peak Pulse (10/1000µs): 42.2A; Power Line Protection: No; Power - Peak Pulse: 1500W (1.5kW); Type: Zener; Voltage - Breakdown (Min): 24.4V; Voltage - Clamping (Max) @ Ipp: 35.5V; Voltage - Reverse Standoff (Typ): 22V; Part Number: SMCJ22CAQ-13-F; Applications: Automotive; ComponentLink1Description: Datasheet; ComponentLink1URL: https://www.diodes.com/assets/Datasheets/ds40741.pdf; ComponentLink2Description: DigiKey Link; ComponentLink2URL: http://digikey.com/product-detail/en/diodes-incorporated/SMCJ22CAQ-13-F/SMCJ22CAQ-13-FDICT-ND/9738949; LastUpdated: 9/2/2020 1:28:09 AM; Lifecycle Status: Active; Minimum Order: 1; Mounting Type: Surface Mount; Operating Temperature: -55°C ~ 150°C (TJ); Package / Case: DO-214AB, SMC; Packaging: TapeAndReel; PartId: 8733; Part Status: Active; Price: 0.28; Series: Automotive, AEC-Q101; Supplier 1: DigiKey; Supplier Part Number 1: SMCJ22CAQ-13-FDICT-ND; Supplier Device Package: SMC
footprint DO214AB SMC
pins: 1, 2

## SMCJ24A
designator D?
TVS DIODE 24V 38.9V SMC; Manufacturer: Taiwan Semiconductor Corporation; Current - Peak Pulse (10/1000µs): 38.6A; Power Line Protection: No; Power - Peak Pulse: 1500W (1.5kW); Type: Zener; Unidirectional Channels: 1; Voltage - Breakdown (Min): 26.7V; Part Number: SMCJ24A; Applications: General Purpose; ComponentLink1Description: Datasheet; ComponentLink1URL: https://www.taiwansemi.com/products/datasheet/SMCJ%20SERIES_Q1812.pdf; ComponentLink2Description: DigiKey Link; ComponentLink2URL: http://digikey.com/product-detail/en/taiwan-semiconductor-corporation/SMCJ24A/SMCJ24AFSCT-ND/3042732; LastUpdated: 9/2/2020 1:20:01 AM; Lifecycle Status: Active; Minimum Order: 1; Mounting Type: Surface Mount; Package / Case: DO-214AB, SMC; Packaging: CutTape; PartId: 6511; Part Status: Active; Price: 0.61; Series: -; Supplier 1: DigiKey; Supplier Part Number 1: SMCJ24AFSCT-ND; Supplier Device Package: SMC (DO-214AB); Voltage - Clamping (Max) @ Ipp: 38.9V; Voltage - Reverse Standoff (Typ): 24V
footprint DO214AB SMC
pins: 1, 2

## SMCJ24A V7G
designator D?
TVS DIODE 24V 38.9V DO214AB; Manufacturer: Taiwan Semiconductor Corporation; Current - Peak Pulse (10/1000µs): 40A; Power Line Protection: No; Power - Peak Pulse: 1500W (1.5kW); Type: Zener; Unidirectional Channels: 1; Voltage - Breakdown (Min): 26.7V; Part Number: SMCJ24A V7G; Applications: Telecom; ComponentLink1Description: Datasheet; ComponentLink1URL: https://www.taiwansemi.com/products/datasheet/SMCJ%20SERIES_Q1812.pdf; ComponentLink2Description: DigiKey Link; ComponentLink2URL: http://digikey.com/product-detail/en/taiwan-semiconductor-corporation/SMCJ24A-V7G/SMCJ24AV7GCT-ND/7944451; LastUpdated: 9/2/2020 1:20:06 AM; Lifecycle Status: Active; Minimum Order: 1; Mounting Type: Surface Mount; Operating Temperature: -55°C ~ 150°C (TJ); Package / Case: DO-214AB, SMC; Packaging: TapeAndReel; PartId: 7045; Part Status: Active; Price: 0.32; Series: SMCJ; Supplier 1: DigiKey; Supplier Part Number 1: SMCJ24AV7GCT-ND; Supplier Device Package: DO-214AB (SMC); Voltage - Clamping (Max) @ Ipp: 38.9V; Voltage - Reverse Standoff (Typ): 24V
footprint DO214AB SMC
pins: 1, 2

## SMCJ24A-13-F
designator D?
TVS DIODE 24V 38.9V SMC; Manufacturer: Diodes Incorporated; Current - Peak Pulse (10/1000µs): 38.6A; Power Line Protection: No; Power - Peak Pulse: 1500W (1.5kW); Type: Zener; Unidirectional Channels: 1; Voltage - Breakdown (Min): 26.7V; Part Number: SMCJ24A-13-F; Applications: General Purpose; ComponentLink1Description: Datasheet; ComponentLink1URL: https://www.diodes.com/assets/Datasheets/ds19003.pdf; ComponentLink2Description: DigiKey Link; ComponentLink2URL: http://digikey.com/product-detail/en/diodes-incorporated/SMCJ24A-13-F/SMCJ24A-FDICT-ND/816122; LastUpdated: 9/2/2020 1:20:03 AM; Lifecycle Status: Active; Minimum Order: 1; Mounting Type: Surface Mount; Operating Temperature: -55°C ~ 150°C (TJ); Package / Case: DO-214AB, SMC; Packaging: TapeAndReel; PartId: 6720; Part Status: Active; Price: 0.20; Series: -; Supplier 1: DigiKey; Supplier Part Number 1: SMCJ24A-FDICT-ND; Supplier Device Package: SMC; Voltage - Clamping (Max) @ Ipp: 38.9V; Voltage - Reverse Standoff (Typ): 24V
footprint DO214AB SMC
pins: 1, 2

## SMCJ24A-E3/57T
designator D?
TVS DIODE 24V 38.9V DO214AB; Manufacturer: Vishay Semiconductor Diodes Division; Current - Peak Pulse (10/1000µs): 38.6A; Power Line Protection: No; Power - Peak Pulse: 1500W (1.5kW); Type: Zener; Unidirectional Channels: 1; Voltage - Breakdown (Min): 26.7V; Part Number: SMCJ24A-E3/57T; Applications: General Purpose; ComponentLink1Description: Datasheet; ComponentLink1URL: http://www.vishay.com/docs/88394/smcj.pdf; ComponentLink2Description: DigiKey Link; ComponentLink2URL: http://digikey.com/product-detail/en/vishay-semiconductor-diodes-division/SMCJ24A-E3-57T/SMCJ24A-E3-57TGICT-ND/1091659; LastUpdated: 9/2/2020 1:20:01 AM; Lifecycle Status: Active; Minimum Order: 1; Mounting Type: Surface Mount; Operating Temperature: -55°C ~ 150°C (TJ); Package / Case: DO-214AB, SMC; Packaging: TapeAndReel; PartId: 6491; Part Status: Active; Price: 0.25; Series: TransZorb®; Supplier 1: DigiKey; Supplier Part Number 1: SMCJ24A-E3/57TGICT-ND; Supplier Device Package: DO-214AB (SMCJ); Voltage - Clamping (Max) @ Ipp: 38.9V; Voltage - Reverse Standoff (Typ): 24V
footprint DO214AB SMC
pins: 1, 2

## SMCJ24A-Q
designator D?
TVS DIODE 24V 38.9V SMC; Manufacturer: Bourns Inc.; Current - Peak Pulse (10/1000µs): 38.6A; Power Line Protection: No; Power - Peak Pulse: 1500W (1.5kW); Type: Zener; Unidirectional Channels: 1; Voltage - Breakdown (Min): 26.7V; Part Number: SMCJ24A-Q; Applications: Automotive; ComponentLink1Description: Datasheet; ComponentLink1URL: https://www.bourns.com/docs/Product-Datasheets/SMCJ-Q.pdf; ComponentLink2Description: DigiKey Link; ComponentLink2URL: http://digikey.com/product-detail/en/bourns-inc/SMCJ24A-Q/SMCJ24A-QCT-ND/8275826; LastUpdated: 9/2/2020 1:20:00 AM; Lifecycle Status: Active; Minimum Order: 0; Mounting Type: Surface Mount; Operating Temperature: -55°C ~ 150°C (TJ); Package / Case: DO-214AB, SMC; Packaging: TapeAndReel; PartId: 6367; Part Status: Active; Price: 0.23; Series: Automotive, AEC-Q101, SMCJ; Supplier 1: DigiKey; Supplier Part Number 1: SMCJ24A-QCT-ND; Supplier Device Package: SMC (DO-214AB); Voltage - Clamping (Max) @ Ipp: 38.9V; Voltage - Reverse Standoff (Typ): 24V
footprint DO214AB SMC
pins: 1, 2

## SMCJ24A-TP
designator D?
TVS DIODE 24V 38.9V DO214AB; Manufacturer: Micro Commercial Co; Current - Peak Pulse (10/1000µs): 38.6A; Power Line Protection: No; Power - Peak Pulse: 1500W (1.5kW); Type: Zener; Unidirectional Channels: 1; Voltage - Breakdown (Min): 26.7V; Part Number: SMCJ24A-TP; Applications: General Purpose; ComponentLink1Description: Datasheet; ComponentLink1URL: https://www.mccsemi.com/pdf/Products/SMCJ5.0~SMCJ440CA(DO-214AB).pdf; ComponentLink2Description: DigiKey Link; ComponentLink2URL: http://digikey.com/product-detail/en/micro-commercial-co/SMCJ24A-TP/SMCJ24A-TPMSCT-ND/1200759; LastUpdated: 9/2/2020 1:19:59 AM; Lifecycle Status: Active; Minimum Order: 1; Mounting Type: Surface Mount; Operating Temperature: -55°C ~ 175°C (TJ); Package / Case: DO-214AB, SMC; Packaging: TapeAndReel; PartId: 6319; Part Status: Active; Price: 0.20; Series: -; Supplier 1: DigiKey; Supplier Part Number 1: SMCJ24A-TPMSCT-ND; Supplier Device Package: DO-214AB (SMC); Voltage - Clamping (Max) @ Ipp: 38.9V; Voltage - Reverse Standoff (Typ): 24V
footprint DO214AB SMC
pins: 1, 2

## SMCJ24AQ-13-F
designator D?
TRANSIENT VOLTAGE SUPPRESSOR,SMC; Manufacturer: Diodes Incorporated; Current - Peak Pulse (10/1000µs): 38.6A; Power Line Protection: No; Power - Peak Pulse: 1500W (1.5kW); Type: Zener; Unidirectional Channels: 1; Voltage - Breakdown (Min): 26.7V; Voltage - Clamping (Max) @ Ipp: 38.9V; Voltage - Reverse Standoff (Typ): 24V; Part Number: SMCJ24AQ-13-F; Applications: Automotive; ComponentLink1Description: Datasheet; ComponentLink1URL: https://www.diodes.com/assets/Datasheets/ds40741.pdf; ComponentLink2Description: DigiKey Link; ComponentLink2URL: http://digikey.com/product-detail/en/diodes-incorporated/SMCJ24AQ-13-F/SMCJ24AQ-13-FDICT-ND/9738939; LastUpdated: 9/2/2020 1:20:00 AM; Lifecycle Status: Active; Minimum Order: 1; Mounting Type: Surface Mount; Operating Temperature: -55°C ~ 150°C (TJ); Package / Case: DO-214AB, SMC; Packaging: TapeAndReel; PartId: 6390; Part Status: Active; Price: 0.26; Series: Automotive, AEC-Q101; Supplier 1: DigiKey; Supplier Part Number 1: SMCJ24AQ-13-FDICT-ND; Supplier Device Package: SMC
footprint DO214AB SMC
pins: 1, 2

## SMCJ24CA
designator D?
TVS DIODE 24V 38.9V SMC; Manufacturer: Taiwan Semiconductor Corporation; Bidirectional Channels: 1; Current - Peak Pulse (10/1000µs): 38.6A; Power Line Protection: No; Power - Peak Pulse: 1500W (1.5kW); Type: Zener; Voltage - Breakdown (Min): 26.7V; Part Number: SMCJ24CA; Applications: General Purpose; ComponentLink1Description: Datasheet; ComponentLink1URL: https://www.taiwansemi.com/products/datasheet/SMCJ5V0CA_F%20SERIES_A1806.pdf; ComponentLink2Description: DigiKey Link; ComponentLink2URL: http://digikey.com/product-detail/en/taiwan-semiconductor-corporation/SMCJ24CA/SMCJ24CAFSCT-ND/3042733; LastUpdated: 9/2/2020 1:28:03 AM; Lifecycle Status: Active; Minimum Order: 1; Mounting Type: Surface Mount; Package / Case: DO-214AB, SMC; Packaging: TapeAndReel; PartId: 8119; Part Status: Active; Price: 0.30; Series: -; Supplier 1: DigiKey; Supplier Part Number 1: SMCJ24CAFSCT-ND; Supplier Device Package: SMC (DO-214AB); Voltage - Clamping (Max) @ Ipp: 38.9V; Voltage - Reverse Standoff (Typ): 24V
footprint DO214AB SMC
pins: 1, 2

## SMCJ24CA V7G
designator D?
TVS DIODE 24V 38.9V DO214AB; Manufacturer: Taiwan Semiconductor Corporation; Bidirectional Channels: 1; Current - Peak Pulse (10/1000µs): 40A; Power Line Protection: No; Power - Peak Pulse: 1500W (1.5kW); Type: Zener; Voltage - Breakdown (Min): 26.7V; Part Number: SMCJ24CA V7G; Applications: Telecom; ComponentLink1Description: Datasheet; ComponentLink1URL: https://www.taiwansemi.com/products/datasheet/SMCJ5V0CA_F%20SERIES_A1806.pdf; ComponentLink2Description: DigiKey Link; ComponentLink2URL: http://digikey.com/product-detail/en/taiwan-semiconductor-corporation/SMCJ24CA-V7G/SMCJ24CAV7GCT-ND/7944452; LastUpdated: 9/2/2020 1:28:01 AM; Lifecycle Status: Active; Minimum Order: 1; Mounting Type: Surface Mount; Operating Temperature: -55°C ~ 150°C (TJ); Package / Case: DO-214AB, SMC; Packaging: TapeAndReel; PartId: 7916; Part Status: Active; Price: 0.50; Series: SMCJ; Supplier 1: DigiKey; Supplier Part Number 1: SMCJ24CAV7GCT-ND; Supplier Device Package: DO-214AB (SMC); Voltage - Clamping (Max) @ Ipp: 38.9V; Voltage - Reverse Standoff (Typ): 24V
footprint DO214AB SMC
pins: 1, 2

## SMCJ24CA-13
designator D?
TVS DIODE 24V 38.9V SMC; Manufacturer: Diodes Incorporated; Bidirectional Channels: 1; Current - Peak Pulse (10/1000µs): 38.6A; Power Line Protection: No; Power - Peak Pulse: 1500W (1.5kW); Type: Zener; Voltage - Breakdown (Min): 26.7V; Part Number: SMCJ24CA-13; Applications: General Purpose; ComponentLink1Description: Datasheet; ComponentLink1URL: https://www.diodes.com/assets/Datasheets/ds19003.pdf; ComponentLink2Description: DigiKey Link; ComponentLink2URL: http://digikey.com/product-detail/en/diodes-incorporated/SMCJ24CA-13/SMCJ24CADITR-ND/278704; LastUpdated: 9/2/2020 1:28:03 AM; Lifecycle Status: Active; Minimum Order: 0; Mounting Type: Surface Mount; Operating Temperature: -55°C ~ 150°C (TJ); Package / Case: DO-214AB, SMC; Packaging: TapeAndReel; PartId: 8097; Part Status: Active; Price: 0.50; Series: -; Supplier 1: DigiKey; Supplier Part Number 1: SMCJ24CADITR-ND; Supplier Device Package: SMC; Voltage - Clamping (Max) @ Ipp: 38.9V; Voltage - Reverse Standoff (Typ): 24V
footprint DO214AB SMC
pins: 1, 2